# EAGLE library part LT3070 (library linear-technology)
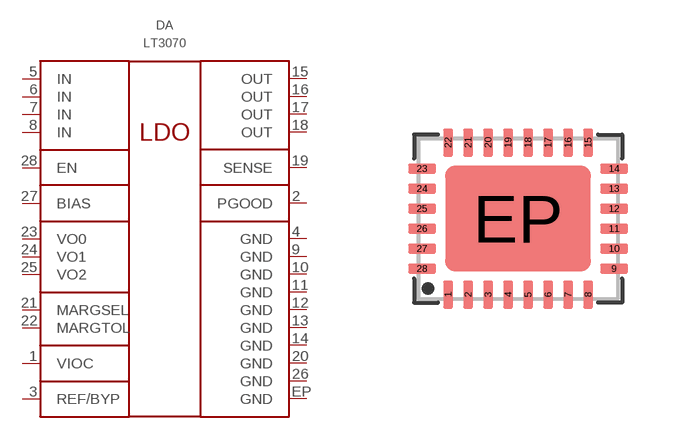
[diagram p6: symbol with the pads of 28-LQFN; footprint 28-LQFN]

Designator prefix DA

## LT3070EUFD#TRPBF  [28-LQFN]
1  VIOC
2  PGOOD  out
3  REF/BYP  pas
4  GND  pwr
5  IN  pwr
6  IN  pwr
7  IN  pwr
8  IN  pwr
9  GND  pwr
10  GND  pwr
11  GND  pwr
12  GND  pwr
13  GND  pwr
14  GND  pwr
15  OUT  pwr
16  OUT  pwr
17  OUT  pwr
18  OUT  pwr
19  SENSE  out
20  GND  pwr
21  MARGSEL  in
22  MARGTOL  in
23  VO0  in
24  VO1  in
25  VO2  in
26  GND  pwr
27  BIAS  pwr
28  EN  in
EP  GND  pwr

## LT3070IUFD#TRPBF  [28-LQFN]
Pads as for 28-LQFN

## LT3070MPUFD#TRPBF  [28-LQFN]
Pads as for 28-LQFN

## LT3070EUFD#TR  [28-LQFN]
Pads as for 28-LQFN

## LT3070IUFD#TR  [28-LQFN]
Pads as for 28-LQFN

## LT3070MPUFD#TR  [28-LQFN]
Pads as for 28-LQFN

## Footprint 28-LQFN (pad centres in mm)
smd 0.25 x 0.7: 1 -1.75,-1.9; 2 -1.25,-1.9; 3 -0.75,-1.9; 4 -0.25,-1.9; 5 0.25,-1.9; 6 0.75,-1.9; 7 1.25,-1.9; 8 1.75,-1.9; 15 1.75,1.9; 16 1.25,1.9; 17 0.75,1.9; 18 0.25,1.9; 19 -0.25,1.9; 20 -0.75,1.9; 21 -1.25,1.9; 22 -1.75,1.9
smd 0.7 x 0.25: 9 2.4,-1.25; 10 2.4,-0.75; 11 2.4,-0.25; 12 2.4,0.25; 13 2.4,0.75; 14 2.4,1.25; 23 -2.4,1.25; 24 -2.4,0.75; 25 -2.4,0.25; 26 -2.4,-0.25; 27 -2.4,-0.75; 28 -2.4,-1.25
smd 3.65 x 2.65: EP 0,0